# Altium footprint library Copy of AQ7538-08UTG.PcbLib: 1 footprints
Each footprint in its own frame and in the unit in brackets; x right, y up, seen from the top. Pads: shape width x height; smd on the part's side, far side on the other; paste and mask are expansions set on the pad; w line width, h text height; cw(c..) or ccw(c..) is an arc to the next point about the centre after c.
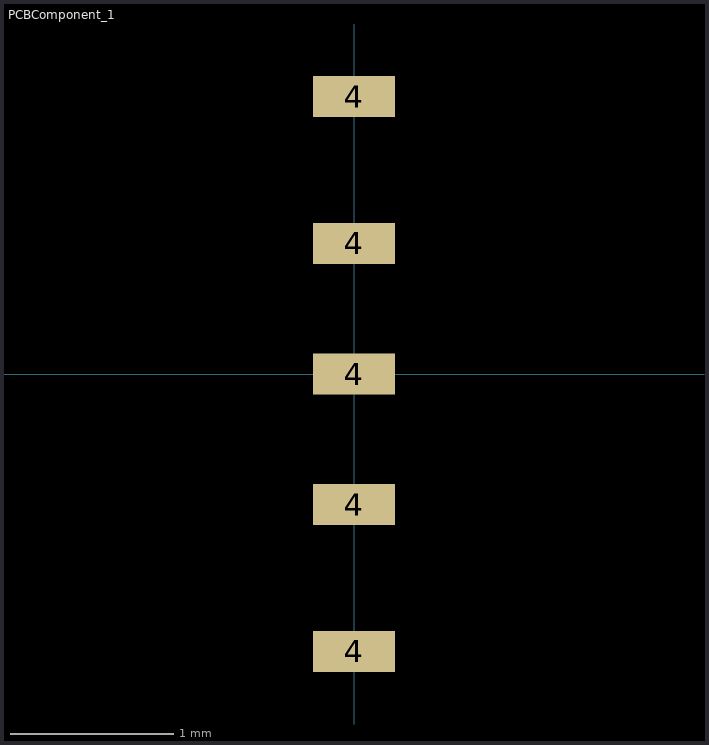
[diagram p0: the footprint, top view; thin cyan lines are the x and y axes]

## PCBComponent_1 [mm]
pads (5):
  rect 0.5x0.25 smd: 4(0,-1.7) 4(0,-0.8) 4(0,0) 4(0,0.8) 4(0,1.7)